# Altium schematic symbol library SN74LV1T34 Logic Level Shifter.SchLib: 1 symbol
Pins are listed as number, name and electrical type; pins without a type are passive.

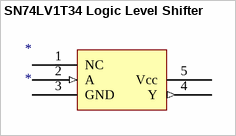
[diagram p0: symbol SN74LV1T34 Logic Level Shifter]

## SN74LV1T34 Logic Level Shifter
designator *
pins: 1 NC, 2 A (in), 3 GND (power), 4 Y (out), 5 Vcc (power)